# Altium footprint library PyBoard_PCB.PcbLib: 17 footprints (part 2 of 2)
Each footprint in its own frame and in the unit in brackets; x right, y up, seen from the top. Pads: shape width x height; smd on the part's side, far side on the other; paste and mask are expansions set on the pad; w line width, h text height; cw(c..) or ccw(c..) is an arc to the next point about the centre after c.
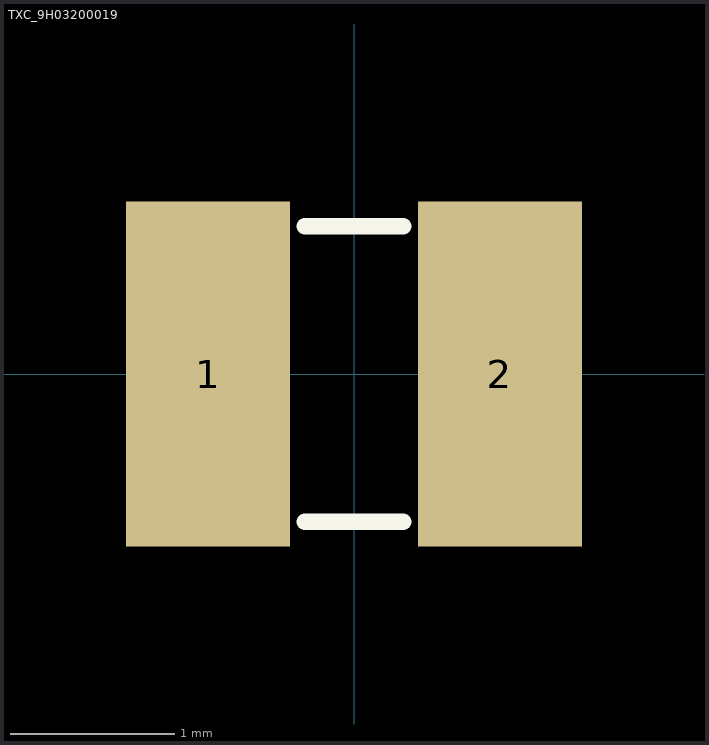
[diagram p1: the footprint, top view; thin cyan lines are the x and y axes]

## TXC_9H03200019 [mm]
pads (2):
  rect 1x2.1 smd: 1(-0.889,0) 2(0.889,0)
Top Overlay:
  lines w0.1: -0.3,-0.9 0.3,-0.9 ; -0.3,0.9 0.3,0.9
3D body: height 0.8, standoff 0, extent -1.397,-0.889 1.397,0.889